# Altium footprint library Capacitors_Tantalum_Polarized_SMD_IPC.PcbLib: 12 footprints
Each footprint in its own frame and in the unit in brackets; x right, y up, seen from the top. Pads: shape width x height; smd on the part's side, far side on the other; paste and mask are expansions set on the pad; w line width, h text height; cw(c..) or ccw(c..) is an arc to the next point about the centre after c.
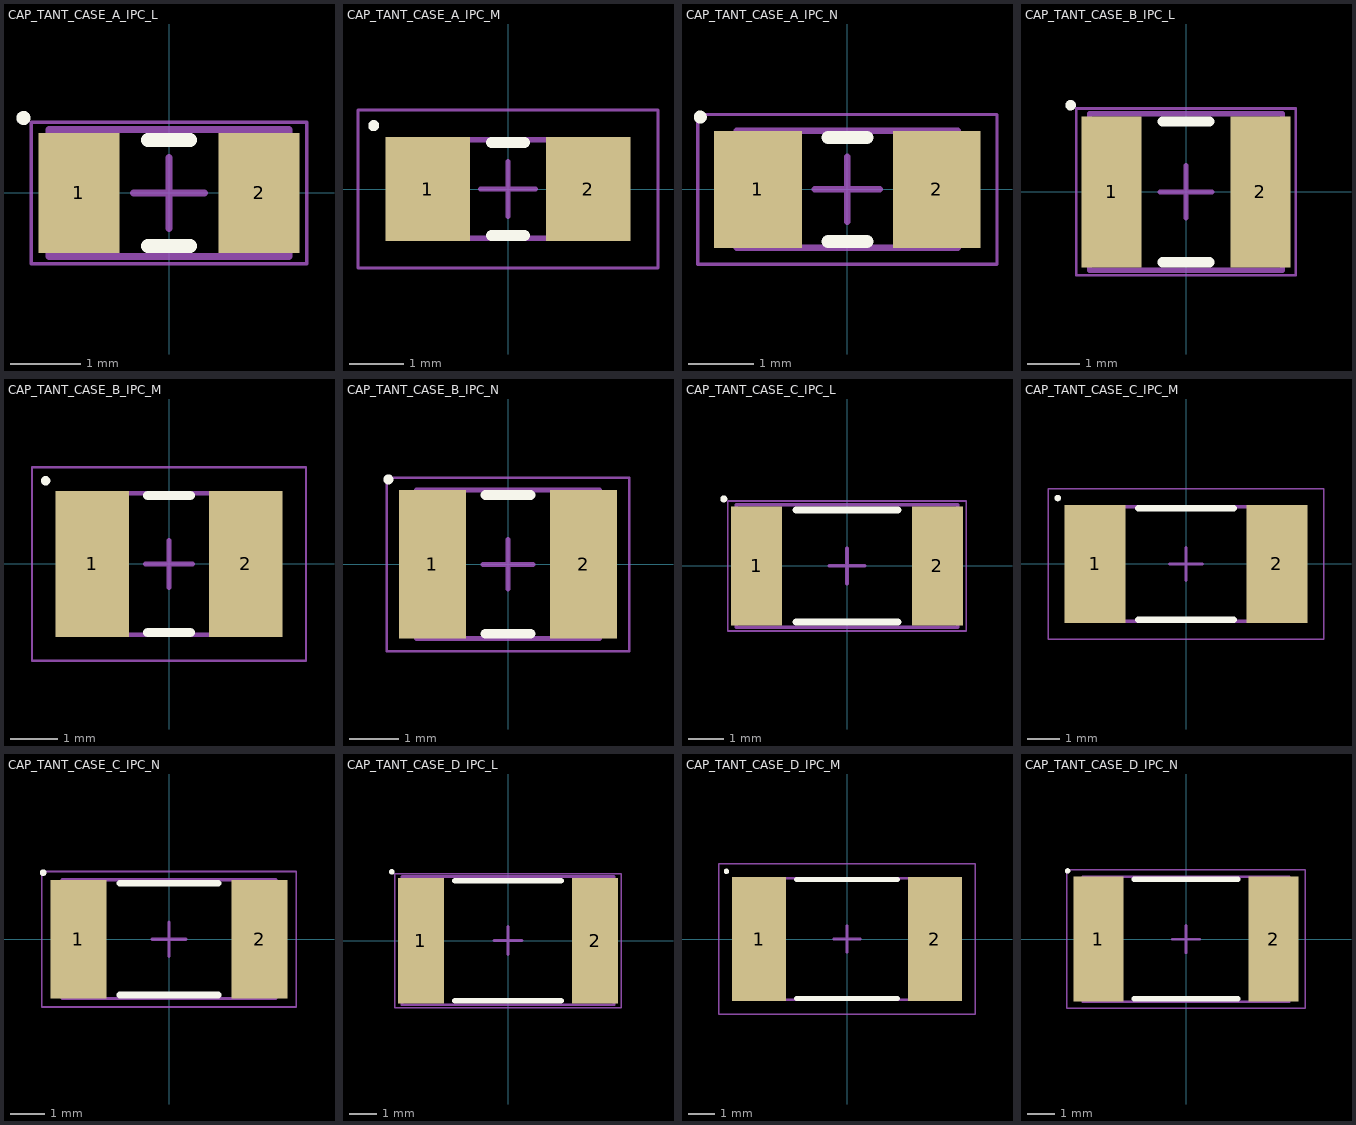
[diagram p0: the footprints below, top view; thin cyan lines are the x and y axes]

## CAP_TANT_CASE_A_IPC_L [mm] "Molded tantalum capacitor CASE A (3216) - IPC Least"
height 1.8
pads (2):
  rect 1.15x1.7 smd: 1(-1.275,0) 2(1.275,0)
Top Overlay:
  circle w0.1: c-2.062,1.062 r0.05
  lines w0.2: -0.3,-0.75 0.3,-0.75 ; -0.3,0.75 0.3,0.75
Mechanical 13:
  lines w0.1: -1.7,-0.9 1.7,-0.9 1.7,0.9 -1.7,0.9 -1.7,-0.9
Mechanical 15:
  lines w0.05: -1.95,-1 1.95,-1 1.95,1 -1.95,1 -1.95,-1
  lines w0.1: -0.5,0 0.5,0 ; 0,-0.5 0,0.5
3D body "CAPCP3216X18L.step": height 1.8, standoff 0, extent -1.7,-0.9 1.7,0.9

## CAP_TANT_CASE_A_IPC_M [mm] "Molded tantalum capacitor CASE A (3216) - IPC Most"
height 1.8
pads (2):
  rect 1.55x1.9 smd: 1(-1.475,0) 2(1.475,0)
Top Overlay:
  circle w0.1: c-2.462,1.162 r0.05
  lines w0.2: -0.3,-0.85 0.3,-0.85 ; -0.3,0.85 0.3,0.85
Mechanical 13:
  lines w0.1: -1.7,-0.9 1.7,-0.9 1.7,0.9 -1.7,0.9 -1.7,-0.9
Mechanical 15:
  lines w0.05: -2.75,-1.45 2.75,-1.45 2.75,1.45 -2.75,1.45 -2.75,-1.45
  lines w0.1: -0.5,0 0.5,0 ; 0,-0.5 0,0.5
3D body "CAPCP3216X18M.step": height 1.8, standoff 0, extent -1.7,-0.9 1.7,0.9

## CAP_TANT_CASE_A_IPC_N [mm] "Molded tantalum capacitor CASE A (3216) - IPC Nominal"
height 1.8
pads (2):
  rect 1.35x1.8 smd: 1(-1.375,0) 2(1.375,0)
Top Overlay:
  circle w0.1: c-2.262,1.112 r0.05
  lines w0.2: -0.3,-0.8 0.3,-0.8 ; -0.3,0.8 0.3,0.8
Mechanical 13:
  lines w0.1: -1.7,-0.9 -1.7,0.9 1.7,0.9 1.7,-0.9 -1.7,-0.9
Mechanical 15:
  lines w0.05: -2.3,-1.15 -2.3,1.15 2.3,1.15 2.3,-1.15 -2.3,-1.15
  lines w0.1: -0.5,0 0.5,0 ; 0,-0.5 0,0.5
3D body "CAPCP3216X18N.step": height 1.8, standoff 0, extent -1.7,-0.9 1.7,0.9

## CAP_TANT_CASE_B_IPC_L [mm] "Molded tantalum capacitor CASE B (3528) - IPC Least"
height 2.1
pads (2):
  rect 1.15x2.9 smd: 1(-1.425,0) 2(1.425,0)
Top Overlay:
  circle w0.1: c-2.212,1.662 r0.05
  lines w0.2: -0.45,-1.35 0.45,-1.35 ; -0.45,1.35 0.45,1.35
Mechanical 13:
  lines w0.1: -1.85,-1.5 -1.85,1.5 1.85,1.5 1.85,-1.5 -1.85,-1.5
Mechanical 15:
  lines w0.05: -2.1,-1.6 -2.1,1.6 2.1,1.6 2.1,-1.6 -2.1,-1.6
  lines w0.1: -0.5,0 0.5,0 ; 0,-0.5 0,0.5
3D body "CAPCP3528X21L.step": height 2.1, standoff 0, extent -1.85,-1.5 1.85,1.5

## CAP_TANT_CASE_B_IPC_M [mm] "Molded tantalum capacitor CASE B (3528) - IPC Most"
height 2.1
pads (2):
  rect 1.55x3.1 smd: 1(-1.625,0) 2(1.625,0)
Top Overlay:
  circle w0.1: c-2.612,1.762 r0.05
  lines w0.2: -0.45,-1.45 0.45,-1.45 ; -0.45,1.45 0.45,1.45
Mechanical 13:
  lines w0.1: -1.85,-1.5 1.85,-1.5 1.85,1.5 -1.85,1.5 -1.85,-1.5
Mechanical 15:
  lines w0.05: -2.9,-2.05 2.9,-2.05 2.9,2.05 -2.9,2.05 -2.9,-2.05
  lines w0.1: -0.5,0 0.5,0 ; 0,-0.5 0,0.5
3D body "CAPCP3528X21M.step": height 2.1, standoff 0, extent -1.85,-1.5 1.85,1.5

## CAP_TANT_CASE_B_IPC_N [mm] "Molded tantalum capacitor CASE B (3528) - IPC Nominal"
height 2.1
pads (2):
  rect 1.35x3 smd: 1(-1.525,0) 2(1.525,0)
Top Overlay:
  circle w0.1: c-2.412,1.712 r0.05
  lines w0.2: -0.45,-1.4 0.45,-1.4 ; -0.45,1.4 0.45,1.4
Mechanical 13:
  lines w0.1: -1.85,-1.5 1.85,-1.5 1.85,1.5 -1.85,1.5 -1.85,-1.5
Mechanical 15:
  lines w0.05: -2.45,-1.75 2.45,-1.75 2.45,1.75 -2.45,1.75 -2.45,-1.75
  lines w0.1: -0.5,0 0.5,0 ; 0,-0.5 0,0.5
3D body "CAPCP3528X21N.step": height 2.1, standoff 0, extent -1.85,-1.5 1.85,1.5

## CAP_TANT_CASE_C_IPC_L [mm] "Molded tantalum capacitor CASE C (6032) - IPC Least"
height 2.8
pads (2):
  rect 1.45x3.4 smd: 1(-2.575,0) 2(2.575,0)
Top Overlay:
  circle w0.1: c-3.512,1.912 r0.05
  lines w0.2: -1.45,-1.6 1.45,-1.6 ; -1.45,1.6 1.45,1.6
Mechanical 13:
  lines w0.1: -3.15,-1.75 3.15,-1.75 3.15,1.75 -3.15,1.75 -3.15,-1.75
Mechanical 15:
  lines w0.05: -3.4,-1.85 3.4,-1.85 3.4,1.85 -3.4,1.85 -3.4,-1.85
  lines w0.1: -0.5,0 0.5,0 ; 0,-0.5 0,0.5
3D body "CAPCP6032X28L.step": height 2.8, standoff 0, extent -3.15,-1.75 3.15,1.75

## CAP_TANT_CASE_C_IPC_M [mm] "Molded tantalum capacitor CASE C (6032) - IPC Most"
height 2.8
pads (2):
  rect 1.85x3.6 smd: 1(-2.775,0) 2(2.775,0)
Top Overlay:
  circle w0.1: c-3.912,2.012 r0.05
  lines w0.2: -1.45,-1.7 1.45,-1.7 ; -1.45,1.7 1.45,1.7
Mechanical 13:
  lines w0.1: -3.15,-1.75 -3.15,1.75 3.15,1.75 3.15,-1.75 -3.15,-1.75
Mechanical 15:
  lines w0.05: -4.2,-2.3 -4.2,2.3 4.2,2.3 4.2,-2.3 -4.2,-2.3
  lines w0.1: -0.5,0 0.5,0 ; 0,-0.5 0,0.5
3D body "CAPCP6032X28M.step": height 2.8, standoff 0, extent -3.15,-1.75 3.15,1.75

## CAP_TANT_CASE_C_IPC_N [mm] "Molded tantalum capacitor CASE C (6032) - IPC Nominal"
height 2.8
pads (2):
  rect 1.65x3.5 smd: 1(-2.675,0) 2(2.675,0)
Top Overlay:
  circle w0.1: c-3.712,1.962 r0.05
  lines w0.2: -1.45,-1.65 1.45,-1.65 ; -1.45,1.65 1.45,1.65
Mechanical 13:
  lines w0.1: -3.15,-1.75 -3.15,1.75 3.15,1.75 3.15,-1.75 -3.15,-1.75
Mechanical 15:
  lines w0.05: -3.75,-2 -3.75,2 3.75,2 3.75,-2 -3.75,-2
  lines w0.1: -0.5,0 0.5,0 ; 0,-0.5 0,0.5
3D body "CAPCP6032X28N.step": height 2.8, standoff 0, extent -3.15,-1.75 3.15,1.75

## CAP_TANT_CASE_D_IPC_L [mm] "Molded tantalum capacitor CASE D (7343) - IPC Least"
height 3.1
pads (2):
  rect 1.65x4.5 smd: 1(-3.125,0) 2(3.125,0)
Top Overlay:
  circle w0.1: c-4.162,2.462 r0.05
  lines w0.2: -1.9,-2.15 1.9,-2.15 ; -1.9,2.15 1.9,2.15
Mechanical 13:
  lines w0.1: -3.8,-2.3 3.8,-2.3 3.8,2.3 -3.8,2.3 -3.8,-2.3
Mechanical 15:
  lines w0.05: -4.05,-2.4 4.05,-2.4 4.05,2.4 -4.05,2.4 -4.05,-2.4
  lines w0.1: -0.5,0 0.5,0 ; 0,-0.5 0,0.5
3D body "CAPCP7343X31L.step": height 3.1, standoff 0, extent -3.8,-2.3 3.8,2.3

## CAP_TANT_CASE_D_IPC_M [mm] "Molded tantalum capacitor CASE D (7343) - IPC Most"
height 3.1
pads (2):
  rect 2.05x4.7 smd: 1(-3.325,0) 2(3.325,0)
Top Overlay:
  circle w0.1: c-4.562,2.562 r0.05
  lines w0.2: -1.9,-2.25 1.9,-2.25 ; -1.9,2.25 1.9,2.25
Mechanical 13:
  lines w0.1: -3.8,-2.3 -3.8,2.3 3.8,2.3 3.8,-2.3 -3.8,-2.3
Mechanical 15:
  lines w0.05: -4.85,-2.85 -4.85,2.85 4.85,2.85 4.85,-2.85 -4.85,-2.85
  lines w0.1: -0.5,0 0.5,0 ; 0,-0.5 0,0.5
3D body "CAPCP7343X31M.step": height 3.1, standoff 0, extent -3.8,-2.3 3.8,2.3

## CAP_TANT_CASE_D_IPC_N [mm] "Molded tantalum capacitor CASE D (7343) - IPC Nominal"
height 3.1
pads (2):
  rect 1.85x4.6 smd: 1(-3.225,0) 2(3.225,0)
Top Overlay:
  circle w0.1: c-4.362,2.512 r0.05
  lines w0.2: -1.9,-2.2 1.9,-2.2 ; -1.9,2.2 1.9,2.2
Mechanical 13:
  lines w0.1: -3.8,-2.3 -3.8,2.3 3.8,2.3 3.8,-2.3 -3.8,-2.3
Mechanical 15:
  lines w0.05: -4.4,-2.55 -4.4,2.55 4.4,2.55 4.4,-2.55 -4.4,-2.55
  lines w0.1: -0.5,0 0.5,0 ; 0,-0.5 0,0.5
3D body "CAPCP7343X31N.step": height 3.1, standoff 0, extent -3.8,-2.3 3.8,2.3